# EAGLE library part PBK-5-XX (library Oles komponentbibliotek)
PCB mountable 100-240V AC to 3.3, 5, 9, 12, 15, or 24 V DC, 5 Watt power supply.
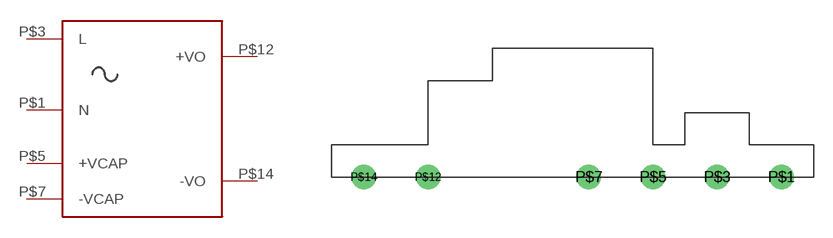
[diagram p50: symbol with the pads of PBK-5-XX; footprint PBK-5-XX]

Designator prefix -

## PBK-5-XX  [PBK-5-XX]
P$1  N  pwr
P$3  L  pwr
P$5  +VCAP  pas
P$7  -VCAP  pas
P$12  +VO  pwr
P$14  -VO  pwr

## Footprint PBK-5-XX (pad centres in mm)
PCB mountable 100-240V AC to 3.3, 5, 9, 12, 15, or 24 V DC, 5 Watt power supply.
drill 1 pad 1.93: P$1 7.62,0; P$3 2.54,0; P$5 -2.54,0; P$7 -7.62,0; P$12 -20.32,0; P$14 -25.4,0